# Altium footprint library SM-42TX.PcbLib: 1 footprints
Each footprint in its own frame and in the unit in brackets; x right, y up, seen from the top. Pads: shape width x height; smd on the part's side, far side on the other; paste and mask are expansions set on the pad; w line width, h text height; cw(c..) or ccw(c..) is an arc to the next point about the centre after c.
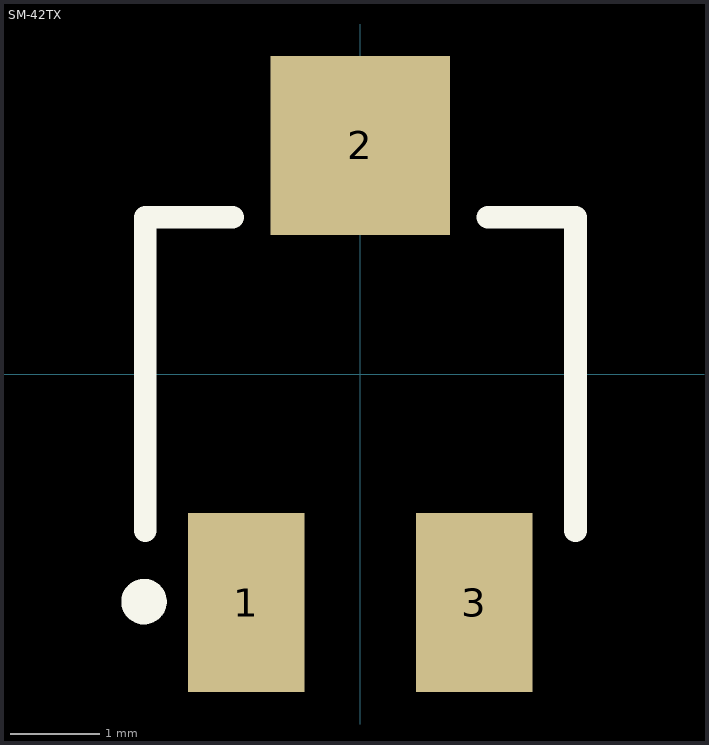
[diagram p0: the footprint, top view; thin cyan lines are the x and y axes]

## SM-42TX [mm]
pads (3):
  rect 1.3x2 smd: 1(-1.27,-2.55) 3(1.27,-2.55)
  rect 2x2 smd: 2(0,2.55)
Top Overlay:
  circle w0.254: c-2.413,-2.54 r0.127
  lines w0.254: -2.4,-1.75 -2.4,1.75 -1.425,1.75 ; 1.425,1.75 2.4,1.75 2.4,-1.75